# Altium integrated library NXP Semiconductor.IntLib: 1 symbol
Pins are listed as number, name and electrical type; pins without a type are passive.

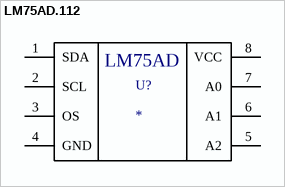
[diagram p0: symbol LM75AD.112]

## LM75AD.112
designator U?
LM75AD.112
footprint SO-8
pins: 1 SDA, 2 SCL, 3 OS, 4 GND, 5 A2, 6 A1, 7 A0, 8 VCC
text: LM75AD